# Altium schematic symbol library Accumulator board 1 2.0.SCHLIB: 34 symbols
Pins are listed as number, name and electrical type; pins without a type are passive.

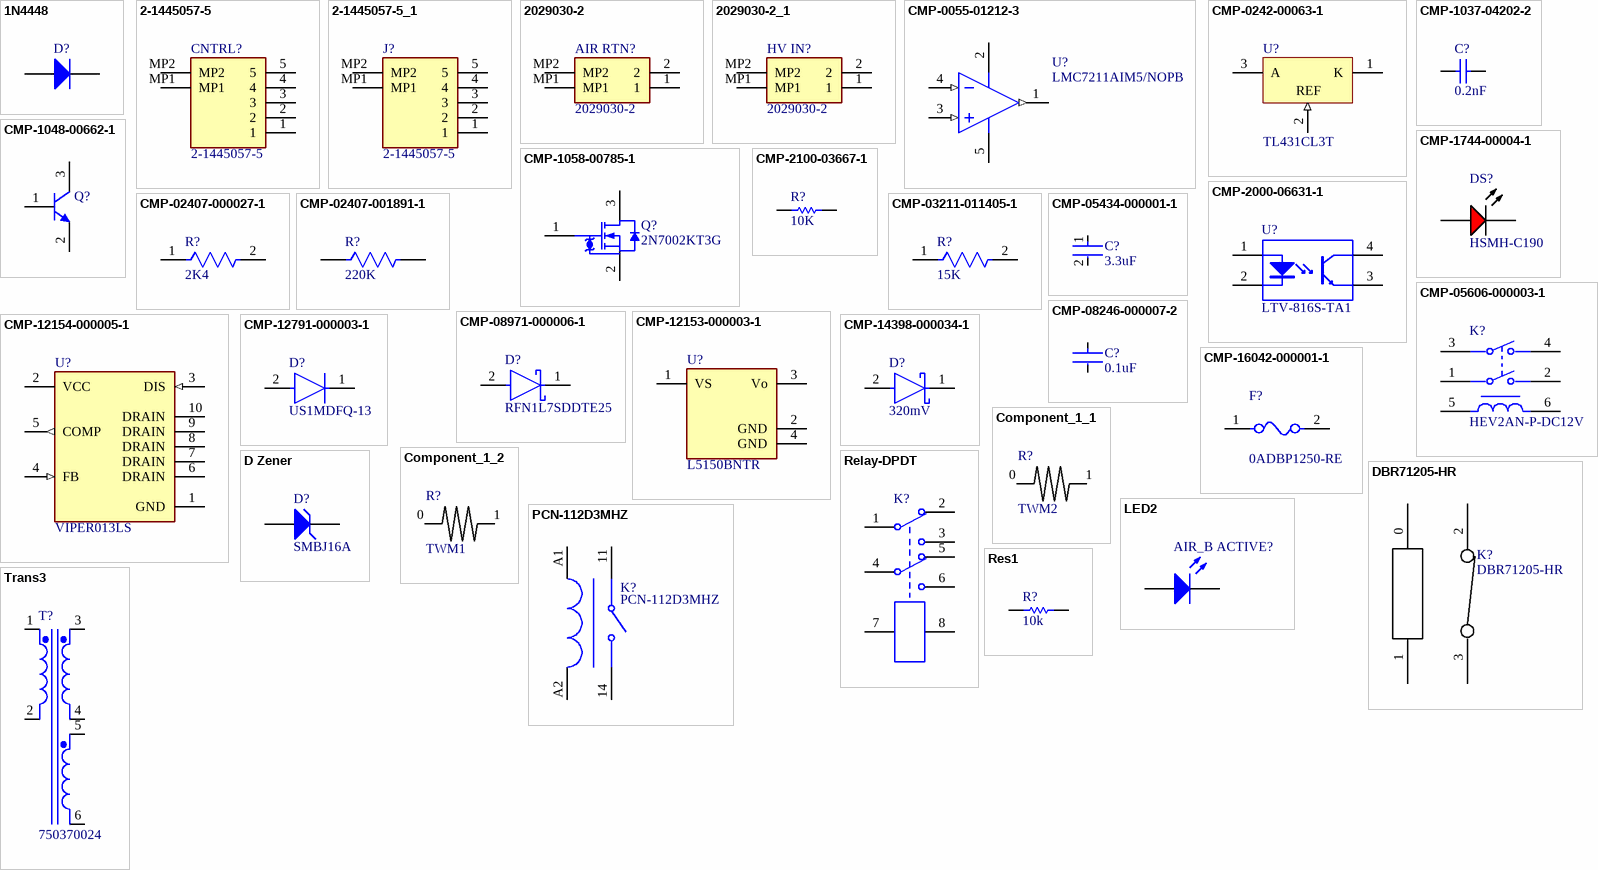
[diagram p0: symbols 1N4448 to Trans3]

## 1N4448
designator D?, comment PMEG4010EGWX  (value not drawn)
153-0632; Published: 8-Jun-2000; LatestRevisionDate: 17-Jul-2002; LatestRevisionNote: Re-released for DXP Platform.; DatasheetDocument: 1997; PackageReference: DO-35; Publisher: Altium Limited; Code_JEDEC: DO-204-AH; ComponentLink1Description: Manufacturer Link; ComponentLink1URL: http://www.fairchildsemi.com/; ComponentLink2Description: Datasheet; ComponentLink2URL: http://www.fairchildsemi.com/ds/1N%2F1N4448.pdf
simulation model 1N4448 (DIODE)
signal-integrity model 1N4448
footprint SOD-123
pins: 1 A, 2 K

## 2-1445057-5
designator CNTRL?
Connector; Manufacturer_Name: TE Connectivity; Datasheet Link: https://componentsearchengine.com/Datasheets/1/2-1445057-5.pdf; Height: 5.67mm; Manufacturer_Part_Number: 2-1445057-5
footprint 214450575
footprint 214450575
pins: 1, 2, 3, 4, 5, MP1, MP2

## 2-1445057-5_1
designator J?, comment 2-1445057-5
Connector; Manufacturer_Name: TE Connectivity; Datasheet Link: https://componentsearchengine.com/Datasheets/1/2-1445057-5.pdf; Height: 5.67mm; Manufacturer_Part_Number: 2-1445057-5
footprint 214450575
footprint 214450575
pins: 1, 2, 3, 4, 5, MP1, MP2

## 2029030-2
designator AIR RTN?
Connector; Manufacturer_Name: TE Connectivity; Datasheet Link: https://datasheet.datasheetarchive.com/originals/distributors/Datasheets_SAMA/f75355dc101dbac16187fb02437cb13d.pdf; Height: 4.37mm; Manufacturer_Part_Number: 2029030-2
footprint 20290302
footprint 20290302
pins: 1, 2, MP1, MP2

## 2029030-2_1
designator HV IN?, comment 2029030-2
Connector; Manufacturer_Name: TE Connectivity; Datasheet Link: https://datasheet.datasheetarchive.com/originals/distributors/Datasheets_SAMA/f75355dc101dbac16187fb02437cb13d.pdf; Height: 4.37mm; Manufacturer_Part_Number: 2029030-2
footprint 20290302
footprint 20290302
pins: 1, 2, MP1, MP2

## CMP-0055-01212-3
designator U?, comment LMC7211AIM5/NOPB
Tiny CMOS Comparator with Rail-to-Rail Input, 5-pin SOT-23, Pb-Free; Manufacturer: Texas Instruments; Manufacturer: TI National Semiconductor; CompType: Amplifiers; PowerWise: N; PackageTopMarking: C00A*XTT; ComponentLink1Description: Datasheet URL; RoHS: Y; Package Reference: DBV0005A; ComponentLink1URL: http://www.ti.com/general/docs/lit/getliterature.tsp?genericPartNumber=LMC7211-N&fileType=pdf; PackageDescription: Molded SOT-23, .115 x .063 x .040 in Body, 5 Lead, .0375 in Pitch; PinCount: 5; Manufacturer Part Number: LMC7211AIM5/NOPB
footprint DBV0005A_M (SOT23, 5-Leads, Body 3.05x1.75mm, Pitch 0.95mm, IPC Low Density)
footprint DBV0005A_N (SOT23, 5-Leads, Body 3.05x1.75mm, Pitch 0.95mm, IPC Medium Density)
footprint DBV0005A_L (SOT23, 5-Leads, Body 3.05x1.75mm, Pitch 0.95mm, IPC High Density)
pins: 1 OUT (out), 2 V+ (power), 3 IN+ (in), 4 IN- (in), 5 V- (power)

## CMP-0242-00063-1
designator U?, comment TL431CL3T
Programmable Voltage Reference, 2.5 to 36V, 3-Pin SOT23-3, Tape and Reel; Manufacturer: STMicroelectronics; PackageVersion: 2011; PackageDescription: 3-Pin SOT-23 Package 0.95 mm Pitch, 2.4 mm Lead Span; PackageReference: SOT23-3; DatasheetVersion: Oct-2011; ComponentLink2Description: Datasheet; ComponentLink2URL: http://www.st.com/internet/com/TECHNICAL_RESOURCES/TECHNICAL_LITERATURE/DATASHEET/CD00000986.pdf; ComponentLink1Description: Manufacturer URL; ComponentLink1URL: http://www.st.com; Manufacturer Part Number: TL431CL3T
footprint SOT23-3_M (SOT23, 3-Leads, Body 2.9x1.3mm, Pitch 0.95mm, Lead Span 2.4mm, IPC Low Density)
footprint SOT23-3_L (SOT23, 3-Leads, Body 2.9x1.3mm, Pitch 0.95mm, Lead Span 2.4mm, IPC High Density)
footprint SOT23-3_N (SOT23, 3-Leads, Body 2.9x1.3mm, Pitch 0.95mm, Lead Span 2.4mm, IPC Medium Density)
pins: 1 K, 2 REF (in), 3 A

## CMP-1037-04202-2
designator C?, comment 0.2nF
C3216C0G2J221J060AA; Manufacturer: Kemet; Manufacturer Part Number: C1206C104K5RAC-TU; Manufacturer Part Number: C1206C104K5RACTM; Manufacturer: Kyocera AVX; Manufacturer Part Number: 12065C104KAT4A; Manufacturer: Yageo; Manufacturer Part Number: CC1206KPX7R9BB104; Manufacturer Part Number: CC1206KRX7R9BB104; Manufacturer: AVX; Manufacturer Part Number: 12065C104KAT9A; Manufacturer: Vishay; Manufacturer Part Number: VJ1206Y104KXACW1BC; Manufacturer: Vishay Vitramon; Manufacturer Part Number: VJ1206Y104KXAPW1BC; Manufacturer Part Number: 12065C104KAT2A; Manufacturer Part Number: C1206C104K5RAC; Manufacturer: TDK; Manufacturer Part Number: C3216X7R1H104K; Voltage Rating: 50V; Capacitance: 0.1µF; Product Range: KEMET-CSeries; SVHC: ToBeAdvised; Capacitance Tolerance: ±10%; Dielectric Characteristic: X7R; Capacitor Case Style: 1206[3216Metric]; Package Reference: 1206-2; Package Description: 2-Leads SMD, Body 3.2 x 1.6 mm; Packaging: Tape&Reel; Operating Temperature Max: 125degC; Datasheet URL: https://datasheet.ciiva.com/6125/1725438-6125494.pdf; Manufacturer URL: http://www.kemet.com/; Operating Temperature Min: -55degC; Datasheet Version: Jul-13; Manufacturer: KEMET
footprint KEMT-1206-2_M (SMD, 2-Leads, Body 3.4x1.8mm, IPC Low Density)
footprint KEMT-1206-2_N (SMD, 2-Leads, Body 3.4x1.8mm, IPC Medium Density)
footprint KEMT-1206-2_L (SMD, 2-Leads, Body 3.4x1.8mm, IPC High Density)
pins: 1, 2

## CMP-1048-00662-1
designator Q?, comment MMBTA42LT1G  (value not drawn)
High Voltage Transistor, NPN Silicon, 3-Pin SOT-23, Pb-Free, Tape and Reel; Manufacturer: On Semiconductor; fT Min (MHz): 50; IC Continuous (A): 0.5; ComponentLink1URL: http://www.onsemi.com/; ComponentLink3URL: http://www.onsemi.cn/pub_link/Collateral/318-08.PDF; RoHS: TRUE; ComponentLink2Description: Datasheet; PartNumber: MMBTA42LT1G; Polarity: NPN; DatasheetVersion: Rev. 12; PackageReference: SOT-23-3-318-08; PackageDescription: 3-Pin Small Outline Transistor, Body 2.92 x 1.3 mm, Pitch 0.95 mm; ComponentLink3Description: Package Specification; ComponentLink1Description: Manufacturer URL; Packing: Tape and Reel; PackageVersion: Rev. AP, 11/2009; Mounting Technology: Surface Mount; ComponentLink2URL: http://www.onsemi.cn/pub_link/Collateral/MMBTA42LT1-D.PDF; Manufacturer: ON Semiconductor; Manufacturer Part Number: MMBTA42LT1G
footprint ONSC-SOT-23-3-318-08_V (SOT23, 3-Leads, Body 2.92x1.3mm, Pitch 0.95mm)
pins: 1 B, 2 E, 3 C

## CMP-1058-00785-1
designator Q?, comment 2N7002KT3G
Small Signal MOSFET, 60 V, 380 mA, Single, N-Channel, 3-Pin SOT-23, Pb-Free, Tape and Reel; Manufacturer: On Semiconductor; Crss Typ (pF): 2.2; Ciss Typ (pF): 24.5; VGS Max (V): 20; ID Max (A): 0.38; VGS(th) Max (V): 2.3; Channel Polarity: N Channel; Coss Typ (pF): 4.2; V(BR)DSS Min (V): 60; Package Type: SOT-23-3; Mounting Technology: Surface Mount; ComponentLink2URL: http://www.onsemi.com/pub_link/Collateral/2N7002K-D.PDF; ComponentLink3Description: Package Specification; DatasheetVersion: Rev. 11; Configuration: Single; PackageReference: SOT-23-3-318-08; Packing: Tape and Reel; ComponentLink2Description: Datasheet; PackageVersion: Rev. AP, 11/2009; RoHS: Pb-Free; ComponentLink1Description: Manufacturer URL; ComponentLink1URL: http://www.onsemi.com/; PackageDescription: 3-Pin Small Outline Transistor, Body 2.92 x 1.3 mm, Pitch 0.95 mm; PartNumber: 2N7002KT3G; ComponentLink3URL: http://www.onsemi.cn/pub_link/Collateral/318-08.PDF; Manufacturer: ON Semiconductor; Manufacturer Part Number: 2N7002KT3G
footprint ONSC-SOT-23-3-318-08_V (SOT23, 3-Leads, Body 2.92x1.3mm, Pitch 0.95mm)
pins: 1 G, 2 S, 3 D

## CMP-1744-00004-1
designator DS?, comment HSMH-C190
LED Uni-Color Red, 65 mW, 20 mA, -40 to 85 degC, 2-Pin SMD, RoHS, Tape and Reel; Manufacturer: Broadcom Avago; Connector Type: USB; Gender: Male; Current Rating: 1 A; Length: 7.5 mm; Lead Pitch: 0.65 mm; PackageReference: HSMX-C190; Package Quantity: 2000; Max Operating Temperature: 85 degC; PackageDescription: 2-Pin Surface Mount Device, Body 1.6 x 0.8 mm, Height 0.9 mm; ComponentLink3Description: Package Specification; Mount: Surface Mount; Min Operating Temperature: -30 degC; ComponentLink3URL: http://www.fairchildsemi.com/dwg/MA/MA03D.pdf; ComponentLink1Description: Manufacturer URL; Contact Material: Copper; Pins: 5; Width: 5.6 mm; ComponentLink2Description: Datasheet; RoHSCompliant: true; DatasheetVersion: Mar-12; Height: 2.8 mm; Packaging: Tape and Reel; Contact Plating: Gold; ComponentLink1URL: http://www.avagotech.com/; REACH SVHC: No SVHC; ComponentLink2URL: http://docs.avagotech.com/docs/AV02-0551EN; Manufacturer Part Number: HSMH-C190
footprint AVAG-HSMX-C190_V (SMD, 2-Leads, Body 1.6x0.8mm, Height 0.9mm)
pins: 1 A, 2 K

## CMP-2000-06631-1
designator U?, comment LTV-816S-TA1
Photocoupler, 50 mA, -30 to 110 degC, 4-Pin SMD, RoHS, Tape and Reel; Manufacturer: Lite-On; Manufacturer: Vishay Lite-On; No of Channels: 1; CTR-Min: 50%; Output Voltage-Max: 80V; Isolation Voltage-Max: 5000V; Datasheet URL: https://datasheet.ciiva.com/6573/s-110-ltv-816826846m-s-s-ta-s-ta1-s-tpseries-6573993.pdf; Package Description: 4-Pin Surface Mount Device, Body 6.5 x 4.6 mm, Pitch 2.54 mm; Manufacturer URL: http://www.us.liteon.com/; Mounting Technology: SurfaceMount; Package Reference: LTV-816S; Operating Temp-Max: 100°C; Datasheet Version: Rev. F, 04/2010; Manufacturer Part Number: LTV-816S-TA1
footprint LTST-LTV-816S_V (SMD, 4-Leads, Body 6.5x4.6mm, Pitch 2.54mm)
pins: 1 ANODE, 2 CATHODE, 3 EMITTER, 4 COLLECTOR

## CMP-2100-03667-1
designator R?, comment 10K
Chip Resistor, 0 Ohm, +/- 5%, 0.1 W, -55 to 155 degC, 0603 (1608 Metric), RoHS, Tape and Reel; Manufacturer: Yageo; Manufacturer Part Number: RC0603JR-070RL; Temperature Coefficient: 200ppm/degreesC; Voltage Rating: 50V; Power Rating: 100mW; Resistance: 0mOhm; Width: 0.8mm; Max Operating Temperature: 155degC; Tolerance: 5%; Package Reference: 0603; Height: 0.45mm; Depth: 0.8mm; Package Description: 2-Pin Surface Mount Device, Body 1.6 x 0.8 mm; Termination: SMD/SMT; Package Quantity: 5000; Case/Package: 0603; Case Code (Imperial): 0603; Radiation Hardening: No; Number of Pins: 2; Length: 1.6mm; Lead Free: LeadFree; Voltage Rating (DC): 50V; Military Standard: Not; Datasheet URL: http://www.yageo.com/NewPortal/yageodocoutput?fileName=/pdf/R-Chip/PYu-RC_Group_51_RoHS_L_5.pdf; Manufacturer URL: http://www.yageo.com/; Packaging: TapeandReel; Case Code (Metric): 1608; Min Operating Temperature: -55degC; Composition: ThickFilm; RoHSCompliant: true; Contact Plating: Tin; Datasheet Version: Rev. 5, 10/2016; REACH SVHC: NoSVHC
footprint RESC1608X55X25ML10T15 (Chip Resistor, 2-Leads, Body 1.60x0.80mm, IPC Low Density)
footprint RESC1608X55X25NL10T15 (Chip Resistor, 2-Leads, Body 1.70x0.90mm, IPC Medium Density)
footprint RESC1608X55X25LL10T15 (Chip Resistor, 2-Leads, Body 1.60x0.80mm, IPC High Density)
pins: 1, 2

## CMP-02407-000027-1
designator R?, comment 2K4
Thick Film Resistors - SMD 3560 2K4 1% / 35602K4FT; Manufacturer Part Number: WSR3R1000FEK; Manufacturer: Vishay; Manufacturer: Vishay Dale; Value: 100mΩ; Temperature Coefficient: 75ppm/°C; Power Rating: 3W; Automotive Grade: Grade 0; Digikey Description: RES 0.1 OHM 1% 3W 4527; Temperature Range High: +275°C; ComponentLink2URL: http://www.vishay.com/docs/30101/wsr.pdf; RoHS: TRUE; Device Class L1: Passive Components; Automotive: Yes; Temperature Range Low: -65°C; Tolerance: 1%; Device Class L3: Chip SMD Resistors; Series: WSR; Temperature: -65°C to +275°C; Resistance: 100mΩ; Device Class L2: Resistors; Octopart: https://octopart.com/wsr3r1000fek-vishay-39709091; Package: WSR; Mouser Description: Res Metal Strip 4527 0.1 Ohm 1% 3W ±75ppm/C Sulfur Resistant Molded J-Lead SMD Automotive Bulk; ComponentLink2Description: Datasheet; Composition: Metal Strip; Category: Res; Lead Free: Yes; Height: 2.537mm
footprint FP-WSR-MFG
pins: 1, 2

## CMP-02407-001891-1
designator R?, comment 220K
CRMA1206AF220KDKEF; Manufacturer: Vishay; Manufacturer Part Number: CRCW120633R0FKEA; Voltage Rating (DC): 200V; Power Rating: 250mW; Resistance: 33R; Tolerance: 1%; Temperature Coefficient: 100ppm/°C; Features: Automotive AEC-Q200; Case Code (Imperial): 1206; Packaging: Tape and Reel; Package Quantity: 10; Composition: Thick Film; Height: 0.55mm; Depth: 1.6mm; Radiation Hardening: No; Lead Free: Lead Free; Width: 1.6mm; Weight: 0.000353oz; Case Code (Metric): 3216; Max Power Dissipation: 250mW; Voltage Rating: 200V; Termination: SMD/SMT; Min Operating Temperature: -55°C; Case/Package: 1206; Contact Plating: Tin; Max Operating Temperature: 155°C; Military Standard: Not; Number of Terminations: 2; Length: 3.2mm
footprint FP-CRCW1206-e3-IPC_B
footprint FP-CRCW1206-e3-MFG
footprint FP-CRCW1206-e3-IPC_C
footprint FP-CRCW1206-e3-IPC_A
pins: 1, 2

## CMP-03211-011405-1
designator R?, comment 15K
SMF715KJT; Manufacturer: TE Connectivity; Manufacturer Part Number: SMF51K0JT; Voltage Rating: 500V; Resistance: 1kR; Tolerance: 5%; Max Power Dissipation: 5W; Number of Resistors: 1; Temperature Coefficient: 100ppm/°C; Number of Terminations: 2; Depth: 7.3mm; Packaging: Tape and Reel; Case/Package: SMD/SMT; RoHS Compliant: Yes; Resistor Type: Power resistor; Features: Flame Retardant Coating; Max Operating Temperature: 280°C; Min Operating Temperature: -80°C; Mount: Surface Mount; Series: SM; Resistance Tolerance: 5%; Height: 6.8mm; Width: 7.3mm; Technology: METAL FILM; Power Rating: 5W; Case Code (Imperial): 5328; ELV: Compliant; Radiation Hardening: No; Voltage Rating (DC): 500V; Length: 13.5mm; Termination: Solder
footprint FP-SMF5-MFG
pins: 1, 2

## CMP-05434-000001-1
designator C?, comment 3.3uF
ECW-FG80335J; Manufacturer: Panasonic; Manufacturer Part Number: ECW-FG1B205JA; Manufacturer Part Number: ECWFG1B205JA; Material: Metallized Polypropylene; Value: 2uF; Automotive Grade: Grade 2; Voltage Rating: 1100V; Tolerance: 5%; Category: Cap; Octopart: https://octopart.com/ecwfg1b205ja-panasonic-104895355; Digikey Description: CAP FILM 2UF 5% 1.1KVDC RADIAL; Height: 25mm; Temperature Range High: +110°C; Device Class L2: Capacitors; Temperature: -40°C to +110°C; Package: 0; Lead Free: Yes; Temperature Range Low: -40°C; Automotive: Yes; Device Class L3: Film Capacitors; RoHS: TRUE; ComponentLink2URL: https://industrial.panasonic.com/cdbs/www-data/pdf/RDL0000/RDL0000C245.pdf; Device Class L1: Passive Components; Capacitance: 2uF; ComponentLink2Description: Datasheet
footprint FP-ECW-FG1B205JA-MFG
pins: 1, 2

## CMP-05606-000003-1
designator K?, comment HEV2AN-P-DC12V
RELAY GEN PURPOSE DPST 20A 24V; Manufacturer Part Number: HEV2AN-P-DC24V; Manufacturer: Panasonic Electric Works; Manufacturer: Panasonic; Coil Type: Non-Latching; Throw Configuration: DPST-NO (2 Form A); Number Of Contacts: 2; Coil Current: 80mA; Coil Power: 1920mW; Coil Resistance: 300Ω; Digikey Description: RELAY GEN PURPOSE DPST 20A 24V; Device Class L1: Electromechanical; Current Rating: 20A; Mouser Description: General Purpose Relays HE-V 20A High Capacity DC24V; Package: HE-V; Device Class L2: Relays; Temperature Range High: +85°C; Temperature Range Low: -40°C; ComponentLink2Description: Datasheet; Switching Current: 20A; Temperature: -40°C to +85°C; Automotive: No; ComponentLink2URL: https://industrial.panasonic.com/ac/cdn/e/control/relay/interception/catalog/mech_eng_hev.pdf; Category: Relay; Device Class L3: Power Relays; Lead Free: Yes; Coil Voltage: 24V; Octopart: https://octopart.com/hev2an-p-dc24v-panasonic-45743145; Height: 39.7mm; RoHS: TRUE; Manufacturer Part Number: HEV2aN-P-DC24V
footprint FP-HE-V-MFG
pins: 1, 2, 3, 4, 5, 6

## CMP-08246-000007-2
designator C?, comment 0.1uF
Multilayer Ceramic Capacitors 4.7μF ±10% 50V X5R SMD 0805; Manufacturer: TDK; Manufacturer Part Number: C2012X5R1H475K125AB; Capacitance: 4.7uF; Case Code (Metric): 2012; Weight: 0.000194oz; Voltage Rating: 50V; Voltage: 50V; Construction: Flat; Series: C; Packaging: Tape and Reel; Height: 1.25mm; Depth: 1.25mm; Resistor Type: Ceramic; Width: 0.049inch; Length: 2mm; Thickness: 0.057inch; REACH SVHC: No SVHC; Max Operating Temperature: 85°C; Case/Package: 0805; Dielectric: X5R; Tolerance: 10%; Dielectric Material: Ceramic; Package Quantity: 1; Mount: Surface Mount; Radiation Hardening: No; Voltage Rating (DC): 50V; Case Code (Imperial): 0805; Termination: SMD/SMT; Min Operating Temperature: -55°C; Lead Free: Lead Free
footprint FP-C2012-125-0_2-IPC_B
footprint FP-C2012-125-0_2-IPC_C
footprint FP-C2012-125-0_2-IPC_A
footprint FP-C2012-125-0_2-MFG
pins: 1, 2

## CMP-08971-000006-1
designator D?, comment RFN1L7SDDTE25
Rectifiers DIODE GEN PURPOSE / 45ns / 1.15V; Manufacturer: Rohm; Obsolete Part: true; Manufacturer Part Number: RSX501L-20TE25; Max Repetitive Reverse Voltage: 25V; Max Surge Forward Current: 70A; Peak Reverse Current: 500uA; Forward Current: 5A; Max Junction Temp: +125°C; Reverse Voltage: 20V; Temperature Range High: +125°C; Digikey Description: DIODE SCHOTTKY 20V 5A PMDS; Automotive: No; Height: 2.2mm; Category: Diode; Device Class L3: Schottky Diodes; Octopart: https://octopart.com/rsx501l-20te25-rohm-333183; Temperature: to +125°C; RoHS: TRUE; ComponentLink2URL: https://eu.mouser.com/datasheet/2/348/rsx501l-20te25-e-1139044.pdf; Device Class L2: Diodes; Package: PMDS; Lead Free: Yes; Device Class L1: Discrete Semiconductors; ComponentLink2Description: Datasheet
footprint FP-PMDS-MFG
pins: 1 C, 2 A

## CMP-12153-000003-1
designator U?, comment L5150BNTR
IC REG LINEAR 5V 150MA SOT223; Manufacturer: STMicroelectronics; Min Supply Voltage: 5.6V; Nominal Supply Current: 50uA; Standoff Height: 0.02mm; Output Type: Fixed; Dropout Voltage: 500mV; Number Of Outputs: 1; Max Supply Voltage: 40V; Automotive Grade: Grade 0; Accuracy Percentage: 2%; Max Junction Temp: +150°C; Automotive: Yes; Mouser Description: LDO Voltage Regulators 5V LDO 500mV Vdp 150mA 5.6V to 40V; RoHS: TRUE; Device Class L3: Voltage Regulators - Linear; Lead Free: Yes; Temperature Range High: +150°C; Temperature Range Low: -40°C; Height: 1.9mm; Ipc Land Pattern Name: SOT230P700X190-4; Output Current: 150mA; Device Class L1: Integrated Circuits (ICs); ComponentLink2Description: Datasheet; Category: IC; Digikey Description: IC REG LINEAR 5V 150MA SOT223; ComponentLink2URL: https://www.st.com/resource/en/datasheet/l5150bn.pdf; Octopart: https://octopart.com/l5150bntr-stmicroelectronics-18186753; Footprint Url: https://www.st.com/content/ccc/resource/technical/document/application_note/45/cc/69/ea/2f/8d/4e/3c/CD00004438.pdf/files/CD00004438.pdf/jcr:content/translations/en.CD00004438.pdf; Temperature: -40°C to +150°C; Package: SOT-223-GAPGPS01378; Output Voltage: 5V; Manufacturer Part Number: L5150BNTR; Device Class L2: Power Management ICs
footprint FP-SOT-223-GAPGPS01378-MFG
footprint FP-SOT-223-GAPGPS01378-IPC_C
footprint FP-SOT-223-GAPGPS01378-IPC_B
footprint FP-SOT-223-GAPGPS01378-IPC_A
pins: 1 VS (power), 2 GND (power), 3 Vo (power), 4 GND (power)

## CMP-12154-000005-1
designator U?, comment VIPER013LS
IC OFFLINE CONV PWM 10SSOP; Manufacturer: STMicroelectronics; Switching Frequency: 60kHz; Max Duty Cycle: 80%; Number Of Outputs: 1; Output Type: Fixed; Max Power Dissipation: 1W; Max Junction Temp: +150°C; Min Supply Voltage: 4.5V; Switching Topology: Buck,Buck-Boost,Flyback; Nominal Supply Current: 0.85mA; Standoff Height: 0.1mm; Max Supply Voltage: 30V; Device Class L1: Integrated Circuits (ICs); Lead Free: Yes; Digikey Description: IC OFFLINE CONV PWM 10SSOP; Category: IC; Temperature: -40°C to +150°C; Package: SSOP10-8140761; Automotive: No; Octopart: https://octopart.com/viper013ls-stmicroelectronics-74146980; Temperature Range High: +150°C; Ipc Land Pattern Name: SOP100P600X175-10; Temperature Range Low: -40°C; ComponentLink2Description: Datasheet; RoHS: TRUE; ComponentLink2URL: https://www.st.com/resource/en/datasheet/viper01.pdf; Height: 1.75mm; Device Class L2: Power Management ICs; Manufacturer Part Number: VIPER013LS; Device Class L3: Voltage Regulators - Switching
footprint FP-SSOP10-8140761-MFG
footprint FP-SSOP10-8140761-IPC_C
footprint FP-SSOP10-8140761-IPC_B
footprint FP-SSOP10-8140761-IPC_A
pins: 1 GND (power), 2 VCC (power), 3 DIS (in), 4 FB (in), 5 COMP (out), 6 DRAIN, 7 DRAIN, 8 DRAIN, 9 DRAIN, 10 DRAIN

## CMP-12791-000003-1
designator D?, comment US1MDFQ-13
DIODE GEN PURP 1KV 1A DFLAT; Manufacturer: Diodes; Max Repetitive Reverse Voltage: 1000V; Max Surge Forward Current: 30A; Capacitance: 10pF; Peak Reverse Current: 5uA; Max Junction Temp: +150°C; Automotive Grade: Grade 0; Value: 10pF; Digikey Description: DIODE GEN PURP 1KV 1A DFLAT; Octopart: https://octopart.com/us1mdfq-13-diodes+inc.-75381839; Temperature Range High: +150°C; ComponentLink2Description: Datasheet; Category: Diode; Automotive: Yes; Temperature: -55°C to +150°C; ComponentLink2URL: https://www.diodes.com/assets/Datasheets/US1JDFQ_US1MDFQ.pdf; Package: D-FLAT; Manufacturer Part Number: US1MDFQ-13; Reverse Voltage: 1000V; Device Class L3: Rectifier Diodes; Forward Current: 1A; Height: 1.1mm; Footprint Url: https://www.diodes.com/assets/Package-Files/D-FLAT.pdf; Device Class L2: Diodes; Lead Free: Yes; Device Class L1: Discrete Semiconductors; Temperature Range Low: -55°C; RoHS: TRUE
footprint FP-D-FLAT-MFG
pins: 1 C, 2 A

## CMP-14398-000034-1
designator D?, comment 320mV
PMEG6030EVPX; Manufacturer: Nexperia; Manufacturer Part Number: PMEG4050EP,115; RoHS Compliant: Yes
footprint FP-SOD128-MFG
pins: 1 K, 2 A

## CMP-16042-000001-1
designator F?, comment 0ADBP1250-RE
FUSE CERM 1.25A 1000V AXL; Manufacturer: Bel Fuse; Manufacturer: Bel; Fuse I2T: 3A2Sec; Fuse Voltage Drop: 550mV; Fuse Blow Speed: Fast; Resistance: 300mΩ; Value: 300mΩ; Ipc Land Pattern Name: CAPAD3723W100L3361D676; Lead Free: Yes; Max Fuse Dc Voltage: 1000V; Device Class L1: Circuit Protection; Manufacturer Part Number: 0ADBP1250-RE; Height: 6.76mm; Package: 0ADBP; Fuse Current: 1.25A; Octopart: https://octopart.com/0adbp1250-re-bel+fuse-88207834; Temperature Range High: +105°C; Device Class L3: unset; Device Class L2: Fuses; Category: Fuse; ComponentLink2URL: https://belfuse.com/resources/datasheets/circuitprotection/ds-cp-0adbx-series.pdf; Temperature: -50°C to +105°C; Voltage Rating: 1000V; Digikey Description: FUSE CERM 1.25A 1000V AXL; Temperature Range Low: -50°C; Max Fuse Ac Voltage: 1000V; ComponentLink2Description: Datasheet; Automotive: No; RoHS: TRUE
footprint FP-0ADBP-MFG
pins: 1, 2

## Component_1_1
designator R?, comment TWM2
https://www.ohmite.com/assets/docs/res_tww_twm.pdf
footprint TWM20
pins: 0, 1

## Component_1_2
designator R?, comment TWM1
https://www.ohmite.com/assets/docs/res_tww_twm.pdf
footprint TWM20
pins: 0, 1

## D Zener
designator D?, comment SMBJ16A
714-7162; Published: 8-Jun-2000; LatestRevisionDate: 17-Jul-2002; LatestRevisionNote: Re-released for DXP Platform.; PackageReference: DIODE-0.7; Publisher: Altium Limited; PackageDescription: Diode, Thru-Hole; 2 Leads; 0.7 in Pin Spacing
footprint DSO-C2/X2.3 (DO-214-AA/SMB; 2 C-Bend Leads; Body 5.3 x 3.6 mm, inc. leads (LxW))
simulation model ZENER (Diode)
signal-integrity model D Zener
footprint DO214AA SMB (Molded Diode, 2-Leads, Body 4.31x3.62mm, IPC Medium Density)
footprint DO-214AA (Diode)
pins: 1 A, 2 K

## DBR71205-HR
designator K?
SPST NC Reed Relay
footprint RelaySPSTNC
footprint RelaySPSTNC
pins: 0, 1, 2, 3

## LED2
designator AIR_B ACTIVE?, comment HSMS-C177  (value not drawn)
Standard LEDs - SMD Chip Top Mt HER; Published: 8-Jun-2000; LatestRevisionDate: 17-Jul-2002; LatestRevisionNote: Re-released for DXP Platform.; PackageVersion: Feb-2002; PackageReference: 3.2X1.6X1.1; Publisher: Altium Limited; PackageDescription: SM LED; 2 Flat Leads
footprint LED 0805/2012 GREEN (Chip Diode, 2-Leads, Body 2.00x1.25mm, IPC Medium Density)
simulation model LED2 (Diode)
footprint Led 0805/2012
pins: 1 A, 2 K

## PCN-112D3MHZ
designator K?
Relay
footprint PCN-112D3MHZ
pins: 11, 14, A1, A2

## Relay-DPDT
designator K?  (value not drawn)
Dual-Pole Dual-Throw Relay; Published: 24-Mar-1999; LatestRevisionDate: 17-Jul-2002; LatestRevisionNote: Re-released for DXP Platform.; PackageReference: DIP-P8; Publisher: Altium Limited; PackageDescription: Relay; 8 Leads
footprint S4190D; pin to pad 1>2 2>3 3>1 4>7 5>6 6>8 7>4 8>5
simulation model DPDTRELAY (Spice Subcircuit)
pins: 1, 2, 3, 4, 5, 6, 7, 8

## Res1
designator R?, comment value 10k  (hidden comment: RT0603BRC0710KL)
Thin Film Resistors - SMD 10K OHM .1% 15PPM 1/10W; Published: 8-Jun-2000; LatestRevisionDate: 17-Jul-2002; LatestRevisionNote: Re-released for DXP Platform.; PackageReference: AXIAL-0.3; Publisher: Altium Limited; PackageDescription: Axial Device, Thru-Hole; 2 Leads; 0.3 in Pin Spacing
footprint RES 0603/1608 (Chip Resistor, 2-Leads, Body 1.60x0.80mm, IPC Medium Density)
simulation model RESISTOR (Resistor)
signal-integrity model Res
pins: 1, 2

## Trans3
designator T?, comment 750370024
Three-winding Transformer (Non-Ideal); Sim Note: Enter the turns ratios, Core loss resistance, Magnetising Reactance, Leakage Reactances and Resistances referred to the primary side into the parameter fields.; Published: 25-Jan-2001; LatestRevisionDate: 17-Jul-2002; LatestRevisionNote: Re-released for DXP Platform.; PackageReference: TRF_6; Publisher: Altium Limited; PackageDescription: Transformer; 6 Leads
simulation model NI3WTRANS (Spice Subcircuit)
footprint Transformer Viper
pins: 1 Pri+, 2 Pri-, 3 Sec1+, 4 Sec1-, 5 Sec2+, 6 Sec2-